# EAGLE library part ICL7660 (library Rebel)
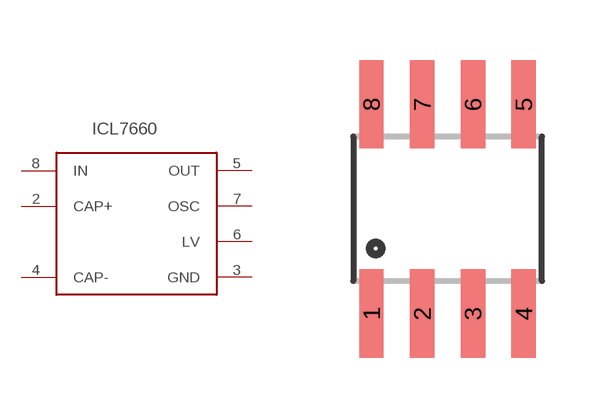
[diagram p33: symbol with the pads of SOIC8; footprint SOIC8]

Designator prefix -

## ICL7660  [SOIC8]
2  CAP+
3  GND
4  CAP-
5  OUT
6  LV
7  OSC
8  IN

## Footprint SOIC8 (pad centres in mm)
smd 0.61 x 2.21: 1 -1.905,-2.616; 2 -0.635,-2.616; 3 0.635,-2.616; 4 1.905,-2.616; 5 1.905,2.616; 6 0.635,2.616; 7 -0.635,2.616; 8 -1.905,2.616